# EAGLE library part DRV8323RSRGZT (library DRV8323RSRGZT)
60V Three-Phase Smart Gate Driver With Buck Regulator and Three Current Shunt Amplifiers Source: Datasheet <http://www.ti.com/lit/ds/symlink/drv8323.pdf>
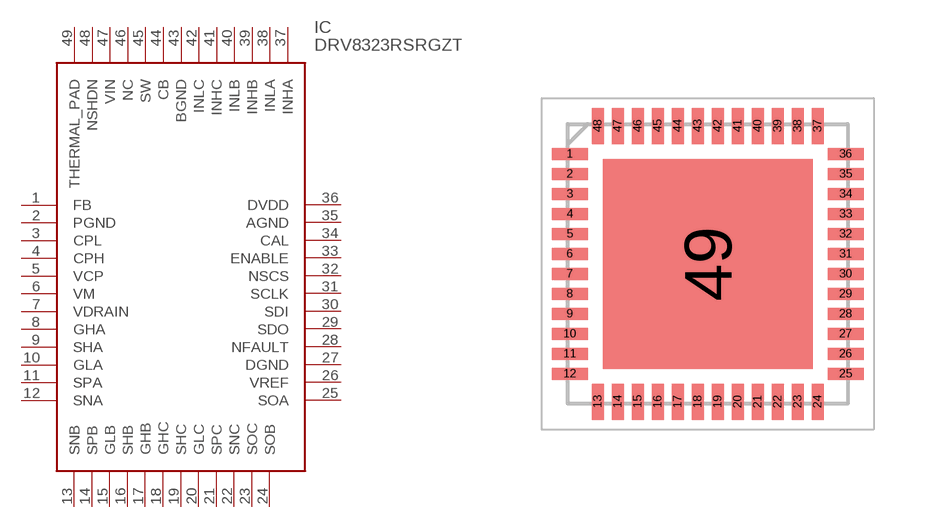
[diagram p0: symbol with the pads of QFN50P700X700X100-49N; footprint QFN50P700X700X100-49N]

Designator prefix IC

## DRV8323RSRGZT (Arrow_Part_Number: DRV8323RSRGZT; Arrow_Price-Stock: https://www.arrow.com/en/products/drv8323rsrgzt/texas-instruments?region=nac; Description: 60V Three-Phase Smart Gate Driver With Buck Regulator and Three Current Shunt Amplifiers; Height: 1mm; Manufacturer_Name: Texas Instruments; Manufacturer_Part_Number: DRV8323RSRGZT; Mouser_Part_Number: 595-DRV8323RSRGZT; Mouser_Price-Stock: https://www.mouser.co.uk/ProductDetail/Texas-Instruments/DRV8323RSRGZT?qs=Mv7BduZupUh8uglXmMY%2FjA%3D%3D)  [QFN50P700X700X100-49N]
1  FB
2  PGND
3  CPL
4  CPH
5  VCP
6  VM
7  VDRAIN
8  GHA
9  SHA
10  GLA
11  SPA
12  SNA
13  SNB
14  SPB
15  GLB
16  SHB
17  GHB
18  GHC
19  SHC
20  GLC
21  SPC
22  SNC
23  SOC
24  SOB
25  SOA
26  VREF
27  DGND
28  NFAULT
29  SDO
30  SDI
31  SCLK
32  NSCS
33  ENABLE
34  CAL
35  AGND
36  DVDD
37  INHA
38  INLA
39  INHB
40  INLB
41  INHC
42  INLC
43  BGND
44  CB
45  SW
46  NC  nc
47  VIN
48  NSHDN
49  THERMAL_PAD

## Footprint QFN50P700X700X100-49N (pad centres in mm)
RGZ (S-PVQFN-N48)
smd 0.9 x 0.3: 1 -3.45,2.75; 2 -3.45,2.25; 3 -3.45,1.75; 4 -3.45,1.25; 5 -3.45,0.75; 6 -3.45,0.25; 7 -3.45,-0.25; 8 -3.45,-0.75; 9 -3.45,-1.25; 10 -3.45,-1.75; 11 -3.45,-2.25; 12 -3.45,-2.75; 25 3.45,-2.75; 26 3.45,-2.25; 27 3.45,-1.75; 28 3.45,-1.25; 29 3.45,-0.75; 30 3.45,-0.25; 31 3.45,0.25; 32 3.45,0.75; 33 3.45,1.25; 34 3.45,1.75; 35 3.45,2.25; 36 3.45,2.75
smd 0.3 x 0.9: 13 -2.75,-3.45; 14 -2.25,-3.45; 15 -1.75,-3.45; 16 -1.25,-3.45; 17 -0.75,-3.45; 18 -0.25,-3.45; 19 0.25,-3.45; 20 0.75,-3.45; 21 1.25,-3.45; 22 1.75,-3.45; 23 2.25,-3.45; 24 2.75,-3.45; 37 2.75,3.45; 38 2.25,3.45; 39 1.75,3.45; 40 1.25,3.45; 41 0.75,3.45; 42 0.25,3.45; 43 -0.25,3.45; 44 -0.75,3.45; 45 -1.25,3.45; 46 -1.75,3.45; 47 -2.25,3.45; 48 -2.75,3.45
smd 5.25 x 5.25: 49 0,0